# EAGLE library part INA226AQDGSRQ1 (library SamacSys_Parts)
AEC-Q100, 36V, Bi-Directional, High Accuracy, Low-/High-Side, I2C Out Current/Power Monitor w/Alert Source: Datasheet <http://www.ti.com/lit/gpn/ina226-q1>
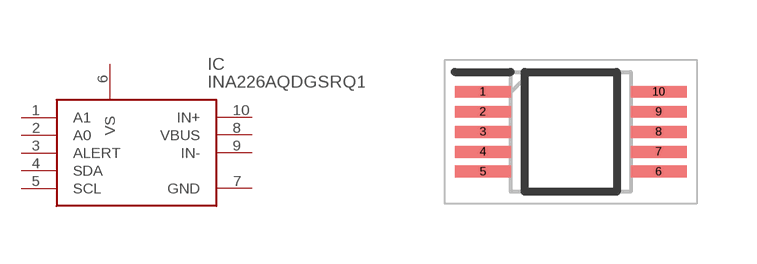
[diagram p8: symbol with the pads of SOP50P490X110-10N; footprint SOP50P490X110-10N]

Designator prefix IC

## INA226AQDGSRQ1 (ARROW_PART_NUMBER: INA226AQDGSRQ1; ARROW_PRICE-STOCK: https://www.arrow.com/en/products/ina226aqdgsrq1/texas-instruments; DESCRIPTION: AEC-Q100, 36V, Bi-Directional, High Accuracy, Low-/High-Side, I2C Out Current/Power Monitor w/Alert; HEIGHT: 1.1mm; MANUFACTURER_NAME: Texas Instruments; MANUFACTURER_PART_NUMBER: INA226AQDGSRQ1; MOUSER_PART_NUMBER: 595-INA226AQDGSRQ1; MOUSER_PRICE-STOCK: https://www.mouser.co.uk/ProductDetail/Texas-Instruments/INA226AQDGSRQ1?qs=uNh9J9Y3wTf1B1%2FBFFp7SA%3D%3D)  [SOP50P490X110-10N]
1  A1
2  A0
3  ALERT
4  SDA
5  SCL
6  VS
7  GND
8  VBUS
9  IN-
10  IN+

## Footprint SOP50P490X110-10N (pad centres in mm)
INA226AQDGSRQ1
smd 1.4 x 0.3: 1 -2.2,1; 2 -2.2,0.5; 3 -2.2,0; 4 -2.2,-0.5; 5 -2.2,-1; 6 2.2,-1; 7 2.2,-0.5; 8 2.2,0; 9 2.2,0.5; 10 2.2,1